# Altium footprint library PowerSupplyModules.PcbLib: 4 footprints
Each footprint in its own frame and in the unit in brackets; x right, y up, seen from the top. Pads: shape width x height; smd on the part's side, far side on the other; paste and mask are expansions set on the pad; w line width, h text height; cw(c..) or ccw(c..) is an arc to the next point about the centre after c.
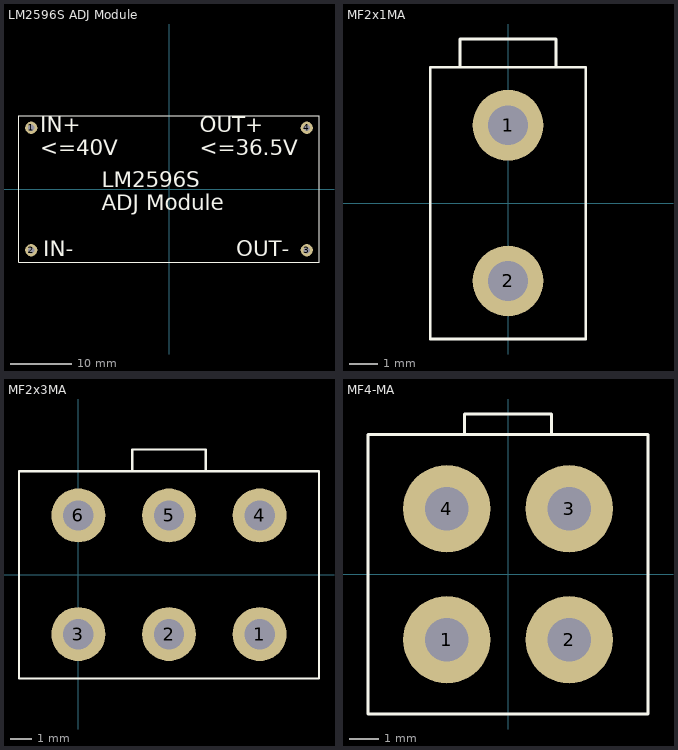
[diagram p0: the footprints below, top view; thin cyan lines are the x and y axes]

## LM2596S ADJ Module [mm] "LM2596S ADJ Module"
height 15
pads (4):
  round 2 hole 1: 1(-22.5,10) 2(-22.5,-10) 3(22.5,-10) 4(22.5,10)
Top Overlay:
  lines w0.1: -24.5,-12 -24.5,12 24.5,12 24.5,-12 -24.5,-12
  text "LM2596S / ADJ Module" at -11,-3.5 h2.54
  text "IN+ / <=40V" at -21,5.5 h2.54
  text "IN-" at -20.5,-11 h2.54
  text "OUT-" at 11,-11 h2.54
  text "OUT+ / <=36.5V" at 5,5.5 h2.54

## MF2x1MA [mm] "PCB 2 pin power outlet"
height 13
pads (2):
  round 2.5 hole 1.4: 1(0,2.75) 2(0,-2.75)
Top Overlay:
  lines w0.1: -1.7,4.8 -1.7,5.8 0,5.8 1.7,5.8 1.7,4.8 ; -2.75,-4.8 -2.75,0 -2.75,4.8 0,4.8 2.75,4.8 2.75,0 2.75,-4.8 0,-4.8 -2.75,-4.8

## MF2x3MA [mm] "PCB 2 pin power outlet"
height 13
pads (6):
  round 2.5 hole 1.4: 1(8.4,-2.75) 2(4.2,-2.75) 3(0,-2.75) 4(8.4,2.75) 5(4.2,2.75) 6(0,2.75)
Top Overlay:
  lines w0.1: 2.5,4.8 2.5,5.8 4.2,5.8 5.9,5.8 5.9,4.8 ; -2.75,-4.8 0,-4.8 8.4,-4.8 11.15,-4.8 11.15,0 11.15,4.8 8.4,4.8 0,4.8 -2.75,4.8 -2.75,0 -2.75,-4.8

## MF4-MA [mm] "4-pin DC connector (TH onboard male)"
height 12.8
pads (4):
  round 3 hole 1.5: 1(-2.1,-2.25) 2(2.1,-2.25) 3(2.1,2.25) 4(-2.1,2.25)
Top Overlay:
  lines w0.1: -1.5,4.8 -1.5,5.5 1.5,5.5 1.5,4.8 ; -4.8,-4.8 -4.8,4.8 4.8,4.8 4.8,-4.8 -4.8,-4.8